# Altium footprint library 686 1xx 183 822.PcbLib: 12 footprints
Each footprint in its own frame and in the unit in brackets; x right, y up, seen from the top. Pads: shape width x height; smd on the part's side, far side on the other; paste and mask are expansions set on the pad; w line width, h text height; cw(c..) or ccw(c..) is an arc to the next point about the centre after c.
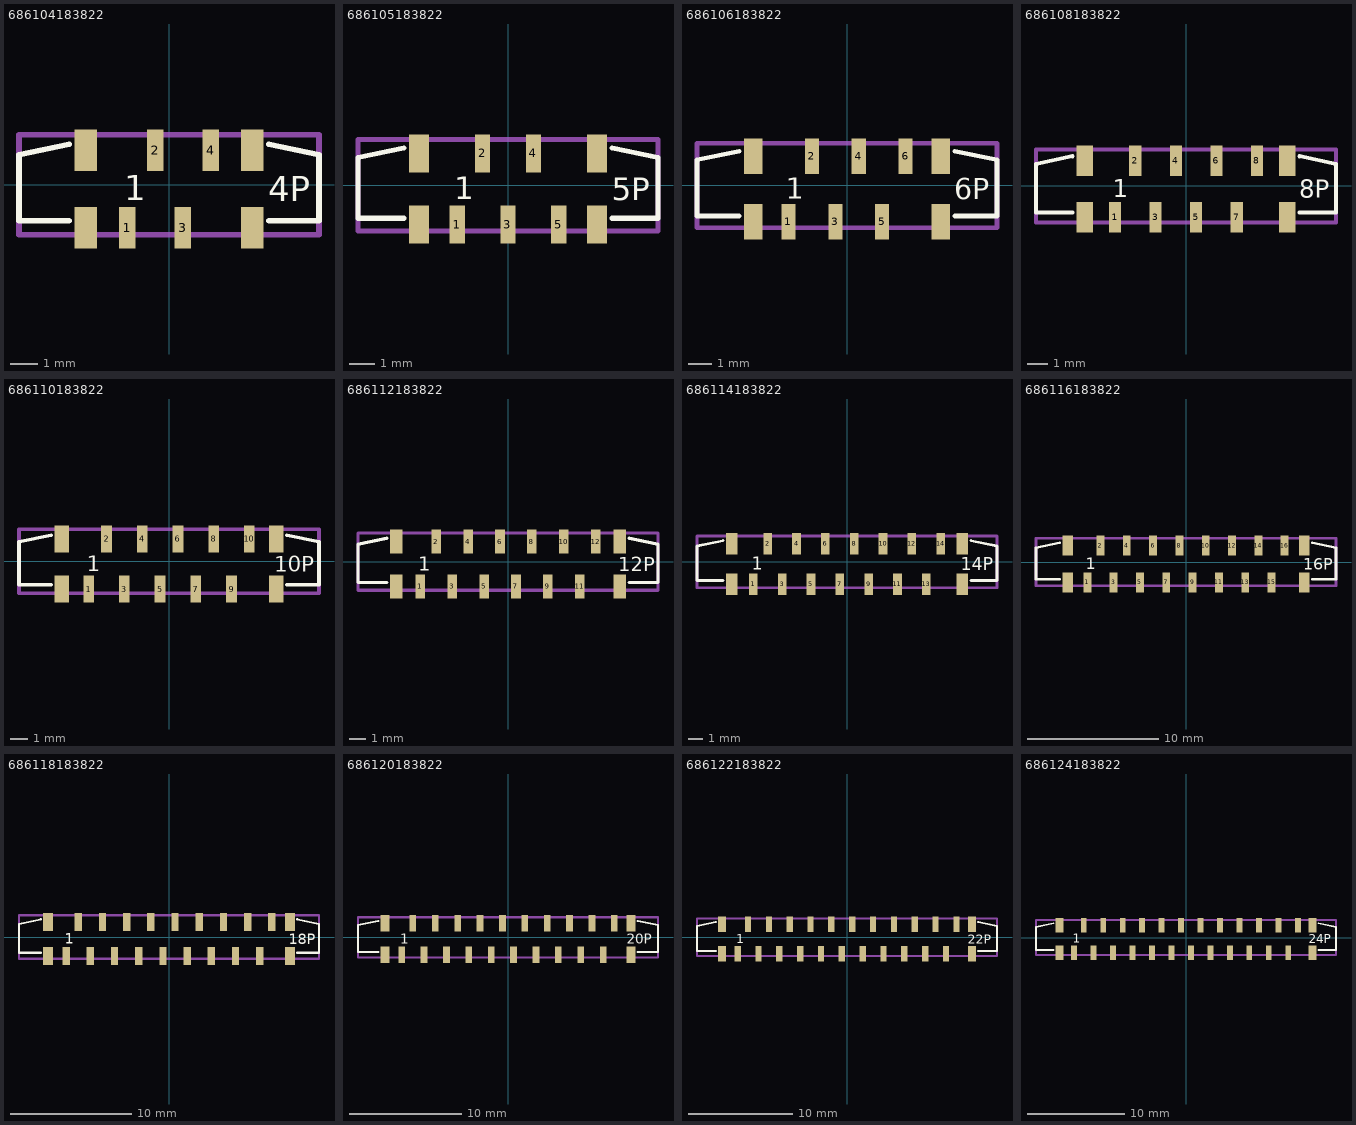
[diagram p0: the footprints below, top view; thin cyan lines are the x and y axes]

## 686104183822 [mm] "1.00 mm SMT ZIF Vertical Type A, 4p"
height 3.9
pads (8):
  rect 0.6x1.5 smd: 1(-1.5,-1.55) 2(-0.5,1.25) 3(0.5,-1.55) 4(1.5,1.25)
  rect 0.8x1.5 smd: ""(-3,-1.55) ""(-3,1.25) ""(3,-1.55) ""(3,1.25)
Top Overlay:
  lines w0.2: -3.6,-1.3 -5.4,-1.3 -5.4,1.09 -3.598,1.466 ; 3.598,1.466 5.4,1.09 5.4,-1.3 3.6,-1.3
  text "4P" at 3.58,-0.59 h0.89
  text "1" at -1.62,-0.56 h0.89
Mechanical 13:
  lines w0.2: -5.4,-1.8 -5.4,1.8 5.4,1.8 5.4,-1.8 -5.4,-1.8
3D body "686104183822.stp": height 4, standoff 0, extent -5.4,-1.8 5.4,1.8

## 686105183822 [mm] "1.00 mm SMT ZIF Vertical Type A, 5p"
height 3.9
pads (9):
  rect 0.6x1.5 smd: 1(-2,-1.55) 2(-1,1.25) 3(0,-1.55) 4(1,1.25) 5(2,-1.55)
  rect 0.8x1.5 smd: ""(-3.5,-1.55) ""(-3.5,1.25) ""(3.5,-1.55) ""(3.5,1.25)
Top Overlay:
  lines w0.2: -4.1,-1.3 -5.9,-1.3 -5.9,1.09 -4.099,1.466 ; 4.098,1.466 5.9,1.09 5.9,-1.3 4.1,-1.3
  text "5P" at 4.08,-0.59 h0.89
  text "1" at -2.12,-0.56 h0.89
Mechanical 13:
  lines w0.2: -5.9,-1.8 -5.9,1.8 5.9,1.8 5.9,-1.8 -5.9,-1.8
3D body "686105183822.stp": height 4, standoff -0.02, extent -5.9,-1.8 5.9,1.8

## 686106183822 [mm] "1.00 mm SMT ZIF Vertical Type A, 6p"
height 3.9
pads (10):
  rect 0.6x1.5 smd: 1(-2.5,-1.55) 2(-1.5,1.25) 3(-0.5,-1.55) 4(0.5,1.25) 5(1.5,-1.55) 6(2.5,1.25)
  rect 0.8x1.5 smd: ""(-4,-1.55) ""(-4,1.25) ""(4,-1.55) ""(4,1.25)
Top Overlay:
  lines w0.2: -4.6,-1.3 -6.4,-1.3 -6.4,1.09 -4.599,1.466 ; 4.598,1.466 6.4,1.09 6.4,-1.3 4.6,-1.3
  text "6P" at 4.58,-0.59 h0.89
  text "1" at -2.62,-0.56 h0.89
Mechanical 13:
  lines w0.2: -6.4,-1.8 -6.4,1.8 6.4,1.8 6.4,-1.8 -6.4,-1.8
3D body "686106183822.stp": height 4, standoff -0.02, extent -6.4,-1.8 6.4,1.8

## 686108183822 [mm] "1.00 mm SMT ZIF Vertical Type A, 8p"
height 3.9
pads (12):
  rect 0.6x1.5 smd: 1(-3.5,-1.55) 2(-2.5,1.25) 3(-1.5,-1.55) 4(-0.5,1.25) 5(0.5,-1.55) 6(1.5,1.25) 7(2.5,-1.55) 8(3.5,1.25)
  rect 0.8x1.5 smd: ""(-5,-1.55) ""(-5,1.25) ""(5,-1.55) ""(5,1.25)
Top Overlay:
  lines w0.2: -5.6,-1.3 -7.4,-1.3 -7.4,1.09 -5.599,1.466 ; 5.598,1.466 7.4,1.09 7.4,-1.3 5.6,-1.3
  text "1" at -3.62,-0.56 h0.89
  text "8P" at 5.58,-0.59 h0.89
Mechanical 13:
  lines w0.2: -7.4,-1.8 7.4,-1.8 7.4,1.8 -7.4,1.8 -7.4,-1.8
3D body "686108183822.stp": height 4, standoff -0.02, extent -7.4,-1.8 7.4,1.8

## 686110183822 [mm] "1.00 mm SMT ZIF Vertical Type A, 10p"
height 3.9
pads (14):
  rect 0.6x1.5 smd: 1(-4.5,-1.55) 2(-3.5,1.25) 3(-2.5,-1.55) 4(-1.5,1.25) 5(-0.5,-1.55) 6(0.5,1.25) 7(1.5,-1.55) 8(2.5,1.25) 9(3.5,-1.55) 10(4.5,1.25)
  rect 0.8x1.5 smd: ""(-6,-1.55) ""(-6,1.25) ""(6,-1.55) ""(6,1.25)
Top Overlay:
  lines w0.2: -6.6,-1.3 -8.4,-1.3 -8.4,1.09 -6.599,1.466 ; 6.598,1.466 8.4,1.09 8.4,-1.3 6.6,-1.3
  text "1" at -4.62,-0.56 h0.89
  text "10P" at 5.9,-0.59 h0.89
Mechanical 13:
  lines w0.2: -8.4,-1.8 8.4,-1.8 8.4,1.8 -8.4,1.8 -8.4,-1.8
3D body "686110183822.stp": height 4, standoff 0, extent -8.4,-1.8 8.4,1.8

## 686112183822 [mm] "1.00 mm SMT ZIF Vertical Type A, 12p"
height 3.9
pads (16):
  rect 0.6x1.5 smd: 1(-5.5,-1.55) 2(-4.5,1.25) 3(-3.5,-1.55) 4(-2.5,1.25) 5(-1.5,-1.55) 6(-0.5,1.25) 7(0.5,-1.55) 8(1.5,1.25) 9(2.5,-1.55) 10(3.5,1.25) 11(4.5,-1.55) 12(5.5,1.25)
  rect 0.8x1.5 smd: ""(-7,-1.55) ""(-7,1.25) ""(7,-1.55) ""(7,1.25)
Top Overlay:
  lines w0.2: -7.6,-1.3 -9.4,-1.3 -9.4,1.09 -7.599,1.466 ; 7.598,1.466 9.4,1.09 9.4,-1.3 7.6,-1.3
  text "12P" at 6.9,-0.59 h0.89
  text "1" at -5.62,-0.56 h0.89
Mechanical 13:
  lines w0.2: -9.4,-1.8 -9.4,1.8 9.4,1.8 9.4,-1.8 -9.4,-1.8
3D body "686112183822.stp": height 4, standoff -0.02, extent -9.4,-1.8 9.4,1.8

## 686114183822 [mm] "1.00 mm SMT ZIF Vertical Type A, 14p"
height 3.9
pads (18):
  rect 0.6x1.5 smd: 1(-6.5,-1.55) 2(-5.5,1.25) 3(-4.5,-1.55) 4(-3.5,1.25) 5(-2.5,-1.55) 6(-1.5,1.25) 7(-0.5,-1.55) 8(0.5,1.25) 9(1.5,-1.55) 10(2.5,1.25) 11(3.5,-1.55) 12(4.5,1.25) 13(5.5,-1.55) 14(6.5,1.25)
  rect 0.8x1.5 smd: ""(-8,-1.55) ""(-8,1.25) ""(8,-1.55) ""(8,1.25)
Top Overlay:
  lines w0.2: -8.6,-1.3 -10.4,-1.3 -10.4,1.09 -8.599,1.466 ; 8.598,1.466 10.4,1.09 10.4,-1.3 8.6,-1.3
  text "14P" at 7.9,-0.59 h0.89
  text "1" at -6.62,-0.56 h0.89
Mechanical 13:
  lines w0.2: -10.4,-1.8 -10.4,1.8 10.4,1.8 10.4,-1.8 -10.4,-1.8
3D body "686114183822.stp": height 4, standoff -0.02, extent -10.4,-1.8 10.4,1.8

## 686116183822 [mm] "1.00 mm SMT ZIF Vertical Type A, 16p"
height 3.9
pads (20):
  rect 0.6x1.5 smd: 1(-7.5,-1.55) 2(-6.5,1.25) 3(-5.5,-1.55) 4(-4.5,1.25) 5(-3.5,-1.55) 6(-2.5,1.25) 7(-1.5,-1.55) 8(-0.5,1.25) 9(0.5,-1.55) 10(1.5,1.25) 11(2.5,-1.55) 12(3.5,1.25) 13(4.5,-1.55) 14(5.5,1.25) 15(6.5,-1.55) 16(7.5,1.25)
  rect 0.8x1.5 smd: ""(-9,-1.55) ""(-9,1.25) ""(9,-1.55) ""(9,1.25)
Top Overlay:
  lines w0.2: -9.6,-1.3 -11.4,-1.3 -11.4,1.09 -9.599,1.466 ; 9.598,1.466 11.4,1.09 11.4,-1.3 9.6,-1.3
  text "16P" at 8.9,-0.59 h0.89
  text "1" at -7.62,-0.56 h0.89
Mechanical 13:
  lines w0.2: -11.4,-1.8 -11.4,1.8 11.4,1.8 11.4,-1.8 -11.4,-1.8
3D body "686116183822.stp": height 4, standoff -0.02, extent -11.4,-1.8 11.4,1.8

## 686118183822 [mm] "1.00 mm SMT ZIF Vertical Type A, 18p"
height 3.9
pads (22):
  rect 0.6x1.5 smd: 1(-8.5,-1.55) 2(-7.5,1.25) 3(-6.5,-1.55) 4(-5.5,1.25) 5(-4.5,-1.55) 6(-3.5,1.25) 7(-2.5,-1.55) 8(-1.5,1.25) 9(-0.5,-1.55) 10(0.5,1.25) 11(1.5,-1.55) 12(2.5,1.25) 13(3.5,-1.55) 14(4.5,1.25) 15(5.5,-1.55) 16(6.5,1.25) 17(7.5,-1.55) 18(8.5,1.25)
  rect 0.8x1.5 smd: ""(-10,-1.55) ""(-10,1.25) ""(10,-1.55) ""(10,1.25)
Top Overlay:
  lines w0.2: -10.6,-1.3 -12.4,-1.3 -12.4,1.09 -10.599,1.466 ; 10.598,1.466 12.4,1.09 12.4,-1.3 10.6,-1.3
  text "18P" at 9.9,-0.59 h0.89
  text "1" at -8.62,-0.56 h0.89
Mechanical 13:
  lines w0.2: -12.4,-1.8 -12.4,1.8 12.4,1.8 12.4,-1.8 -12.4,-1.8
3D body "686118183822.stp": height 4, standoff -0.02, extent -12.4,-1.8 12.4,1.8

## 686120183822 [mm] "1.00 mm SMT ZIF Vertical Type A, 20p"
height 3.9
pads (24):
  rect 0.6x1.5 smd: 1(-9.5,-1.55) 2(-8.5,1.25) 3(-7.5,-1.55) 4(-6.5,1.25) 5(-5.5,-1.55) 6(-4.5,1.25) 7(-3.5,-1.55) 8(-2.5,1.25) 9(-1.5,-1.55) 10(-0.5,1.25) 11(0.5,-1.55) 12(1.5,1.25) 13(2.5,-1.55) 14(3.5,1.25) 15(4.5,-1.55) 16(5.5,1.25) 17(6.5,-1.55) 18(7.5,1.25) 19(8.5,-1.55) 20(9.5,1.25)
  rect 0.8x1.5 smd: ""(-11,-1.55) ""(-11,1.25) ""(11,-1.55) ""(11,1.25)
Top Overlay:
  lines w0.2: -11.6,-1.3 -13.4,-1.3 -13.4,1.09 -11.599,1.466 ; 11.598,1.466 13.4,1.09 13.4,-1.3 11.6,-1.3
  text "20P" at 10.6,-0.59 h0.89
  text "1" at -9.62,-0.56 h0.89
Mechanical 13:
  lines w0.2: -13.4,-1.8 -13.4,1.8 13.4,1.8 13.4,-1.8 -13.4,-1.8
3D body "686120183822.stp": height 4, standoff -0.02, extent -13.4,-1.8 13.4,1.8

## 686122183822 [mm] "1.00 mm SMT ZIF Vertical Type A, 22p"
height 3.9
pads (26):
  rect 0.6x1.5 smd: 1(-10.5,-1.55) 2(-9.5,1.25) 3(-8.5,-1.55) 4(-7.5,1.25) 5(-6.5,-1.55) 6(-5.5,1.25) 7(-4.5,-1.55) 8(-3.5,1.25) 9(-2.5,-1.55) 10(-1.5,1.25) 11(-0.5,-1.55) 12(0.5,1.25) 13(1.5,-1.55) 14(2.5,1.25) 15(3.5,-1.55) 16(4.5,1.25) 17(5.5,-1.55) 18(6.5,1.25) 19(7.5,-1.55) 20(8.5,1.25) 21(9.5,-1.55) 22(10.5,1.25)
  rect 0.8x1.5 smd: ""(-12,-1.55) ""(-12,1.25) ""(12,-1.55) ""(12,1.25)
Top Overlay:
  lines w0.2: -12.6,-1.3 -14.4,-1.3 -14.4,1.09 -12.599,1.466 ; 12.598,1.466 14.4,1.09 14.4,-1.3 12.6,-1.3
  text "1" at -10.62,-0.56 h0.89
  text "22P" at 11.6,-0.59 h0.89
Mechanical 13:
  lines w0.2: -14.4,-1.8 14.4,-1.8 14.4,1.8 -14.4,1.8 -14.4,-1.8
3D body "686122183822.stp": height 4, standoff -0.02, extent -14.4,-1.8 14.4,1.8

## 686124183822 [mm] "1.00 mm SMT ZIF Vertical Type A, 24p"
height 3.9
pads (28):
  rect 0.6x1.5 smd: 1(-11.5,-1.55) 2(-10.5,1.25) 3(-9.5,-1.55) 4(-8.5,1.25) 5(-7.5,-1.55) 6(-6.5,1.25) 7(-5.5,-1.55) 8(-4.5,1.25) 9(-3.5,-1.55) 10(-2.5,1.25) 11(-1.5,-1.55) 12(-0.5,1.25) 13(0.5,-1.55) 14(1.5,1.25) 15(2.5,-1.55) 16(3.5,1.25) 17(4.5,-1.55) 18(5.5,1.25) 19(6.5,-1.55) 20(7.5,1.25) 21(8.5,-1.55) 22(9.5,1.25) 23(10.5,-1.55) 24(11.5,1.25)
  rect 0.8x1.5 smd: ""(-13,-1.55) ""(-13,1.25) ""(13,-1.55) ""(13,1.25)
Top Overlay:
  lines w0.2: -13.6,-1.3 -15.4,-1.3 -15.4,1.09 -13.599,1.466 ; 13.598,1.466 15.4,1.09 15.4,-1.3 13.6,-1.3
  text "1" at -11.62,-0.56 h0.89
  text "24P" at 12.6,-0.59 h0.89
Mechanical 13:
  lines w0.2: -15.4,-1.8 15.4,-1.8 15.4,1.8 -15.4,1.8 -15.4,-1.8
3D body "686124183822.stp": height 4, standoff -0.02, extent -15.4,-1.8 15.4,1.8